# EAGLE library part OPT3001 (library balto)
OPT3001 Ambient Light Sensor (ALS)
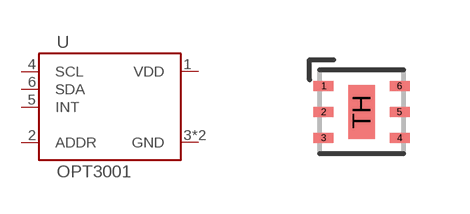
[diagram p87: symbol with the pads of OPT3001; footprint OPT3001]

Designator prefix U

## OPT3001  [OPT3001]
1  VDD
2  ADDR
3  GND
4  SCL
5  INT
6  SDA
TH  GND

## Footprint OPT3001 (pad centres in mm)
OPT3001 Ambient Light Sensor (ALS)
smd 0.5 x 0.25: 1 -0.95,0.65; 2 -0.95,0; 3 -0.95,-0.65; 4 0.95,-0.65; 5 0.95,0; 6 0.95,0.65
smd 0.65 x 1.35: TH 0,0